# Altium schematic symbol library Speak_TDK_PS1420P02CT_eec.SchLib: 1 symbol
Pins are listed as number, name and electrical type; pins without a type are passive.

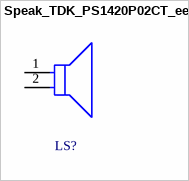
[diagram p0: symbol Speak_TDK_PS1420P02CT_eec]

## Speak_TDK_PS1420P02CT_eec
designator LS?
SPEAK AUDIO PIEZO TRANSDUCER 30V TH; Part Number: PS1420P02CT; Manufacturer: TDK; helpURL: https://upverter.com/upn/revision/c40fcc79eb057440/; ComponentLink2Description: Datasheet; Temperature: -10°C to +70°C; Package: PTH_BZ; Supplier 2: Mouser; Price: 0.484234236378; Supplier 1: Digi-Key; ComponentLink1URL: https://upverter.com/upn/revision/c40fcc79eb057440/; Supplier Part Number 2: 810-PS1420P02CT; Supplier Part Number 1: 445-2526-1-ND; ComponentLink1Description: Upverter; ComponentLink2URL: https://upverter.com/datasheet/458958daf548c3d54cf9a7d1ea1ff395e223655a.pdf; RoHS: TRUE; Mouser Part Number: 810-PS1420P02CT; Ipc Land Pattern Name: CAPRD500W80D1400H1100; Temperature Range High: +70°C; Digikey Description: SPEAK AUDIO PIEZO TRANSDUCER 30V TH; Digikey Part Number: 445-2526-1-ND; Lead Free: yes; Temperature Range Low: -10°C
footprint TDK_PS1420P02CT_0
pins: 1, 2